# EAGLE library part ST-D3 (library trafo-siemens)
TRANSFORMER
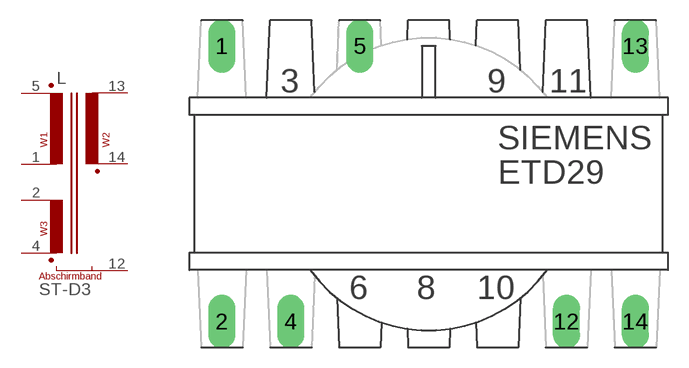
[diagram p4: symbol with the pads of ST-D3; footprint ST-D3]

Designator prefix L

## ST-D3  [ST-D3]
1  1E  pas
2  3E  pas
4  3A  pas
5  1A  pas
12  SCH  pas
13  2E  pas
14  2A  pas

## Footprint ST-D3 (pad centres in mm)
TRANSFORMER
drill 1.321 long: 1 -15.24,10.16; 2 -15.24,-10.16; 4 -10.16,-10.16; 5 -5.08,10.16; 12 10.16,-10.16; 13 15.24,10.16; 14 15.24,-10.16